# Altium footprint library 电池座.PcbLib: 1 footprints
Each footprint in its own frame and in the unit in brackets; x right, y up, seen from the top. Pads: shape width x height; smd on the part's side, far side on the other; paste and mask are expansions set on the pad; w line width, h text height; cw(c..) or ccw(c..) is an arc to the next point about the centre after c.
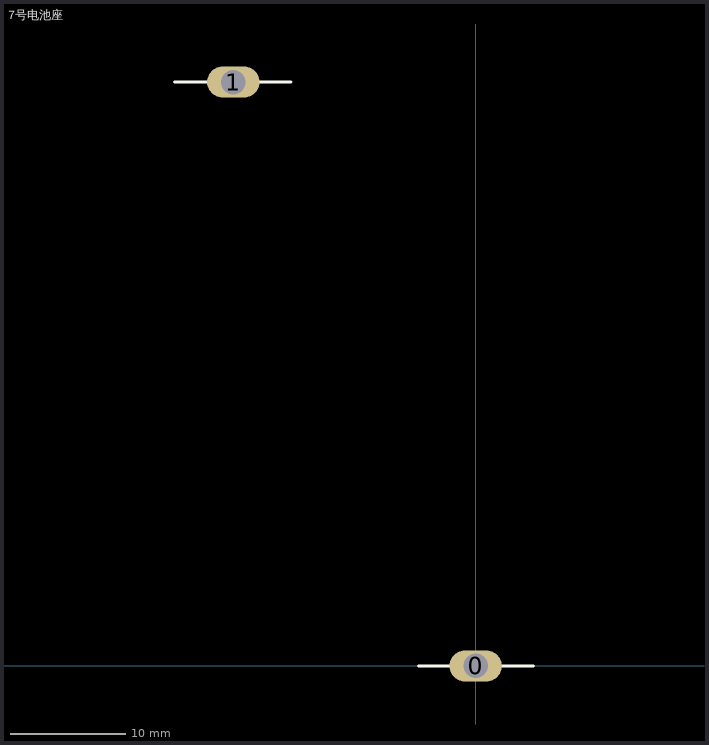
[diagram p0: the footprint, top view; thin cyan lines are the x and y axes]

## 7号电池座 [mm]
pads (2):
  oval 4.54x2.7 hole 2.12: 0(0,0) 1(-20.953,50.5)
Top Overlay:
  lines w0.254: -26.038,50.5 -21.038,50.5 ; -20.953,50.5 -15.953,50.5 ; -4.953,0 0.047,0 ; 0,0 5,0